# Altium schematic symbol library SCH - POWER - SWITCHMODE - TI TPS63710DRR.SchLib: 1 symbol
Pins are listed as number, name and electrical type; pins without a type are passive.

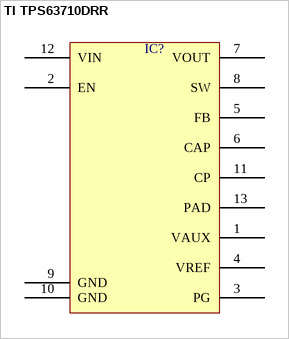
[diagram p0: symbol TI TPS63710DRR]

## TI TPS63710DRR
designator IC?  (value not drawn)
pins: 1 VAUX, 2 EN, 3 PG, 4 VREF, 5 FB, 6 CAP, 7 VOUT, 8 SW, 9 GND, 10 GND, 11 CP, 12 VIN, 13 PAD